# EAGLE library part NHD-5.0-800480TF-ATXL-CTP_TOUCH (library ik)
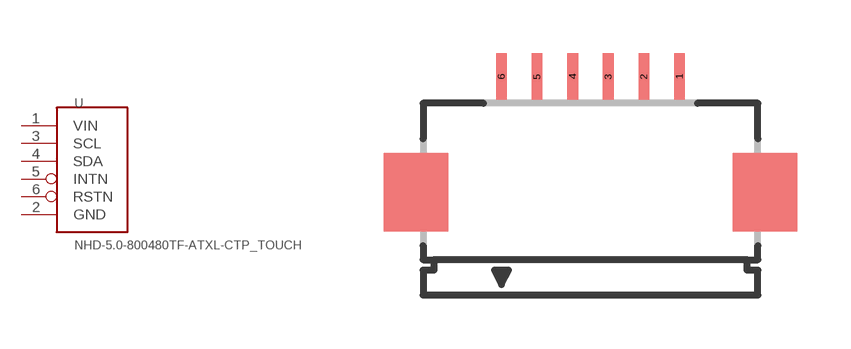
[diagram p5: symbol with the pads of 52271-0679; footprint 52271-0679]

Designator prefix -

## NHD-5.0-800480TF-ATXL-CTP_TOUCH  [52271-0679]
1  VIN  pwr
2  GND  pwr
3  SCL
4  SDA
5  INTN  out
6  RSTN  in

## Footprint 52271-0679 (pad centres in mm)
6 pin bottom contact FPC, Molex 52271-0679
smd 0.3 x 1.3: 1 1.5,3.25; 2 0.5,3.25; 3 -0.5,3.25; 4 -1.5,3.25; 5 -2.5,3.25; 6 -3.5,3.25